# EAGLE library part 24LC32A (library QFN32)
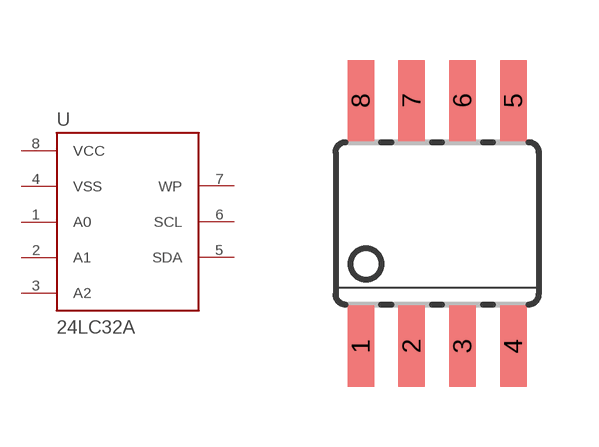
[diagram p2: symbol with the pads of SOIC8; footprint SOIC8]

Designator prefix -

## 24LC32A  [SOIC8]
1  A0
2  A1
3  A2
4  VSS
5  SDA
6  SCL
7  WP
8  VCC

## Footprint SOIC8 (pad centres in mm)
smd 0.66 x 2.032: 1 -1.905,-3.073; 2 -0.635,-3.073; 3 0.635,-3.073; 4 1.905,-3.073; 5 1.905,3.073; 6 0.635,3.073; 7 -0.635,3.073; 8 -1.905,3.073